# EAGLE library part LM22675 (library EE445L)
LM22675 1A Step-Down Voltage Regulator
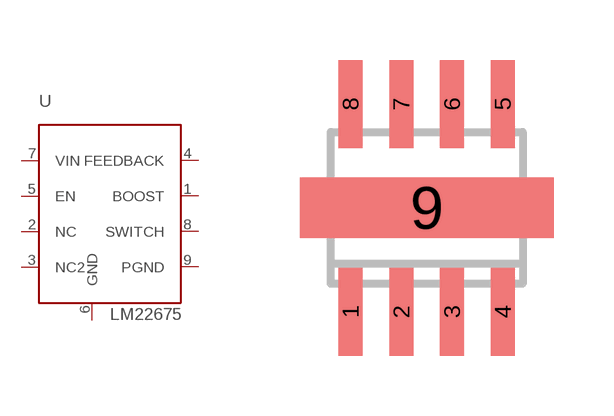
[diagram p37: symbol with the pads of SO8-POWERPAD; footprint SO8-POWERPAD]

Designator prefix -

## LM22675  [SO8-POWERPAD]
1  BOOST  pas
2  NC  pas
3  NC2  pas
4  FEEDBACK  pas
5  EN  in
6  GND  in
7  VIN  in
8  SWITCH  out
9  PGND  pwr

## Footprint SO8-POWERPAD (pad centres in mm)
SO8 Small Outline Package with PowerPAD 0.05in (1.27mm) between pins 0.21in (5.4mm) center to center of pins 0.27in (6.9mm) tip to tip Valvano
smd 0.6 x 2.2: 1 -1.905,-2.6; 2 -0.635,-2.6; 3 0.635,-2.6; 4 1.905,-2.6; 5 1.905,2.6; 6 0.635,2.6; 7 -0.635,2.6; 8 -1.905,2.6
smd 6.35 x 1.524: 9 0,0